# Altium schematic symbol library MCU_Symbols.SchLib: 1 symbol
Pins are listed as number, name and electrical type; pins without a type are passive.

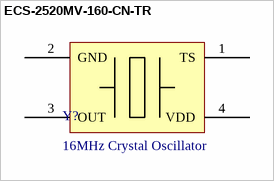
[diagram p0: symbol ECS-2520MV-160-CN-TR]

## ECS-2520MV-160-CN-TR
designator Y?, comment 16MHz Crystal Oscillator
OSC XO 16.000MHZ CMOS SMD
footprint ECS OSCXO
pins: 1 TS, 2 GND, 3 OUT, 4 VDD